# EAGLE library part OPA4376Q1 (library BMS_Slave_v2)
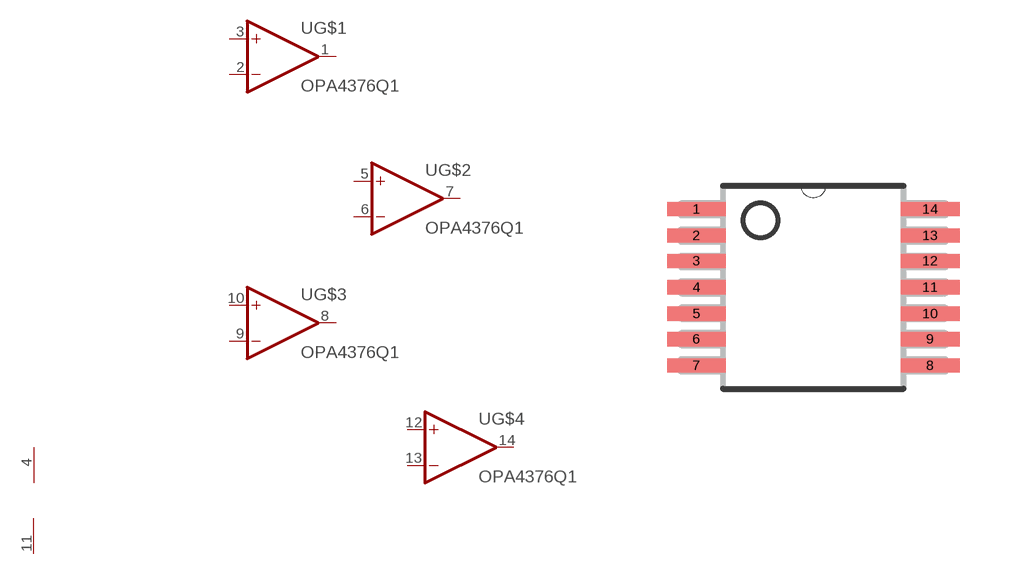
[diagram p10: symbol with the pads of TSSOP-14; footprint TSSOP-14]

Designator prefix -; gates G$1=OPAMP G$2=OPAMP G$3=OPAMP G$4=OPAMP G$5=PWR+-

## OPA4376Q1  [TSSOP-14]
1  G$1:OUT  out
2  G$1:-IN  in
3  G$1:+IN  in
4  G$5:V+  pwr
5  G$2:+IN  in
6  G$2:-IN  in
7  G$2:OUT  out
8  G$3:OUT  out
9  G$3:-IN  in
10  G$3:+IN  in
11  G$5:V-  pwr
12  G$4:+IN  in
13  G$4:-IN  in
14  G$4:OUT  out

## Footprint TSSOP-14 (pad centres in mm)
smd 1.473 x 0.356: 1 -2.921,1.956; 2 -2.921,1.295; 3 -2.921,0.66; 4 -2.921,0; 5 -2.921,-0.66; 6 -2.921,-1.295; 7 -2.921,-1.956; 8 2.921,-1.956; 9 2.921,-1.295; 10 2.921,-0.66; 11 2.921,0; 12 2.921,0.66; 13 2.921,1.295; 14 2.921,1.956